# EAGLE library part HR30_6R_6PD(71)_FFC (library HR30_6R_6PD(71) - Receptacle TH FFC)
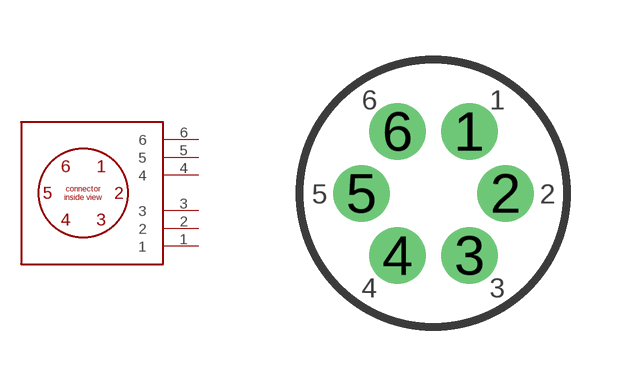
[diagram p0: symbol with the pads of TH; footprint TH]

Designator prefix CONN

## HR30_6R_6PD(71)_FFC  [TH]
1  1
2  2
3  3
4  4
5  5
6  6

## Footprint TH (pad centres in mm)
drill 0.9: 1 0.9,1.55; 2 1.8,0; 3 0.9,-1.55; 4 -0.9,-1.55; 5 -1.8,0; 6 -0.9,1.55